# Altium schematic symbol library DLPT05.Schlib: 1 symbol
Pins are listed as number, name and electrical type; pins without a type are passive.

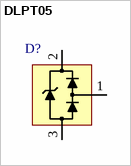
[diagram p0: symbol DLPT05]

## DLPT05
designator D?  (value not drawn)
TVS Diode Array, Diodes Inc. DLPT05 series
pins: 1 LINE, 2 VCC, 3 GND